# Altium schematic symbol library DAC8830ID.Schlib: 1 symbol
Pins are listed as number, name and electrical type; pins without a type are passive.

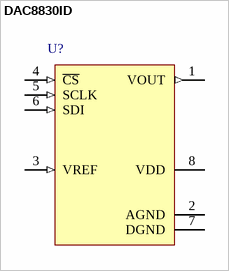
[diagram p0: symbol DAC8830ID]

## DAC8830ID
designator U?
pins: 1 VOUT (out), 2 AGND (power), 3 VREF (in), 4 ~{CS} (in), 5 SCLK (in), 6 SDI (in), 7 DGND (power), 8 VDD (power)